# Altium schematic symbol library Crystals.SchLib: 1 symbol
Pins are listed as number, name and electrical type; pins without a type are passive.

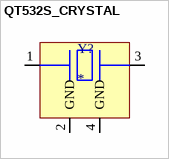
[diagram p0: symbol QT532S_CRYSTAL]

## QT532S_CRYSTAL
designator Y?
footprint QT532S_5,0x3,2_crystal
pins: 1 OSC, 2 GND, 3 OSC, 4 GND